# Altium integrated library TI Logic Gate 1.IntLib: 948 symbols (part 7 of 22)
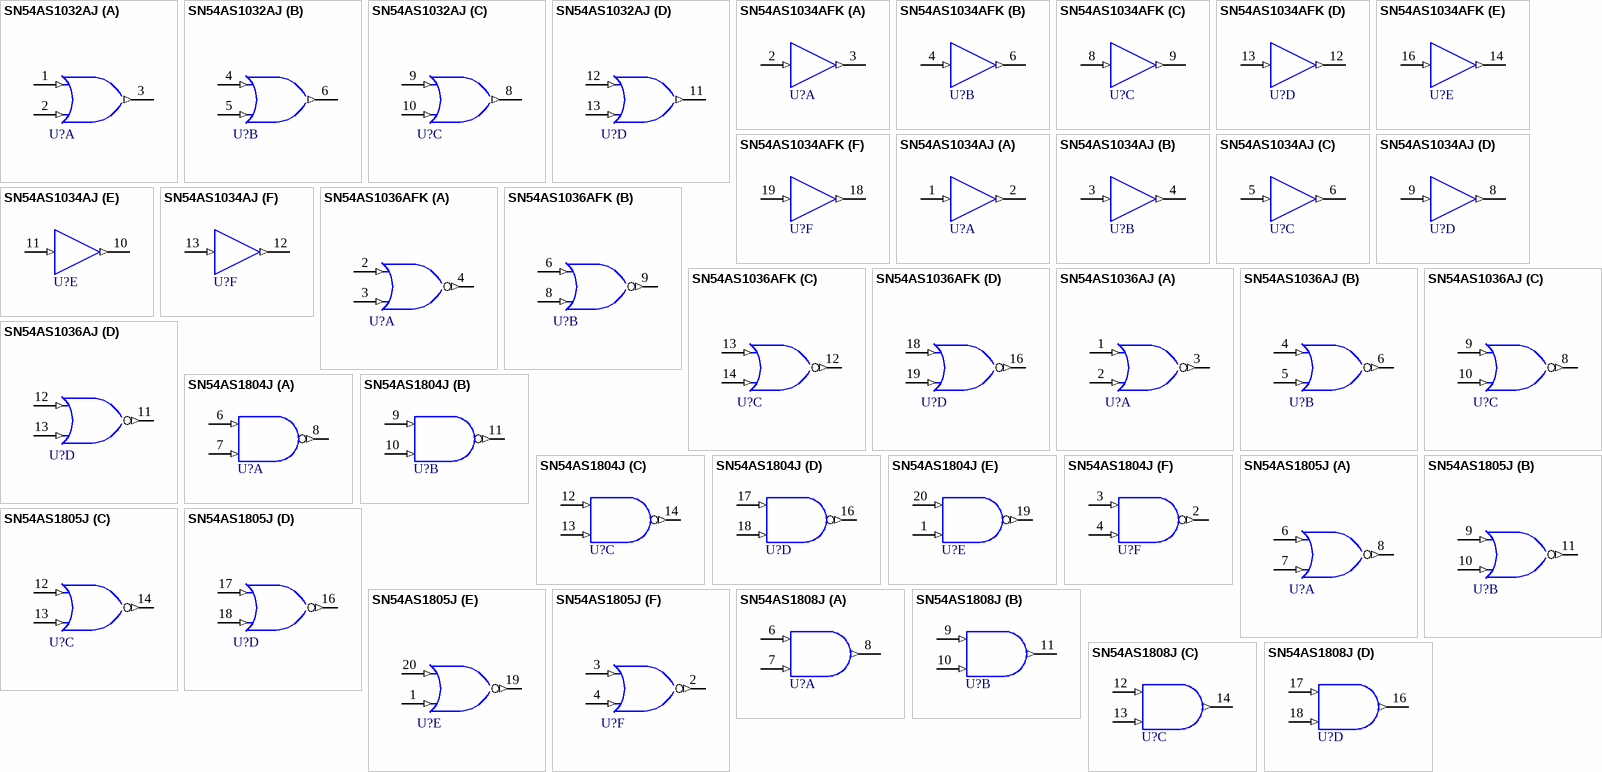
[diagram p96: symbols SN54AS1032AJ to SN54AS1808J]

## SN54AS1036AFK
designator U?
Quadruple 2-Input Positive-NOR Driver; Note: Pins 1, 5, 7, 11, 15 and 17 are not connected and not drawn; Published: 8-Jun-2000; LatestRevisionDate: 17-Jul-2002; LatestRevisionNote: Re-released for DXP Platform.; DatasheetVersion: May-1986; PackageVersion: 1998; PackageReference: FK020; Publisher: Altium Limited; PackageDescription: Leadless Chip Carrier; 20 Terminals; Body 8.9 x 8.9 mm; ComponentLink1Description: Manufacturer Link; ComponentLink1URL: http://www.ti.com/; ComponentLink2Description: Datasheet; ComponentLink2URL: http://www-s.ti.com/sc/ds/sn74as1036a.pdf; ComponentLink3Description: Packaging Specification; ComponentLink3URL: http://www-s.ti.com/sc/psheets/mlcc006b/mlcc006b.pdf
footprint FK020 (Leadless Chip Carrier; 20 Terminals; Body 8.9 x 8.9 mm)
signal-integrity model SN54AS1036AFK
pins on every part: 10 GND (power) hidden to GND, 20 VCC (power) hidden to VCC
part A pins: 2 A (in), 3 B (in), 4 Y (out)
part B pins: 6 A (in), 8 B (in), 9 Y (out)
part C pins: 12 Y (out), 13 A (in), 14 B (in)
part D pins: 16 Y (out), 18 A (in), 19 B (in)

## SN54AS1036AJ
designator U?
Quadruple 2-Input Positive-NOR Driver; Published: 8-Jun-2000; LatestRevisionDate: 04-Mar-2005; LatestRevisionNote: Stylized 3D Model Added.; DatasheetVersion: May-1986; PackageVersion: Jun-1999; PackageReference: J014; Publisher: Altium Limited; PackageDescription: DIP; 14 Leads; Row Spacing 7.62 mm; Pitch 2.54 mm; ComponentLink1Description: Manufacturer Link; ComponentLink1URL: http://www.ti.com/; ComponentLink2Description: Datasheet; ComponentLink2URL: http://www-s.ti.com/sc/ds/sn74as1036a.pdf; ComponentLink3Description: Packaging Specification; ComponentLink3URL: http://focus.ti.com/lit/ml/mcer002d/mcer002d.pdf
footprint J014 (DIP; 14 Leads; Row Spacing 7.62 mm; Pitch 2.54 mm)
3D model J014 (DIP; 14 Leads; Row Spacing 7.62 mm; Pitch 2.54 mm)
signal-integrity model SN54AS1036AJ
pins on every part: 7 GND (power) hidden to GND, 14 VCC (power) hidden to VCC
part A pins: 1 A1 (in), 2 B1 (in), 3 Y1 (out)
part B pins: 4 A2 (in), 5 B2 (in), 6 Y2 (out)
part C pins: 8 Y3 (out), 9 A3 (in), 10 B3 (in)
part D pins: 11 Y4 (out), 12 A4 (in), 13 B4 (in)

## SN54AS1804J
designator U?
Hex 2-Input NAND Driver; Published: 8-Jun-2000; LatestRevisionDate: 04-Mar-2005; LatestRevisionNote: Stylized 3D Model Added.; DatasheetVersion: May-1986; PackageVersion: Jun-1999; PackageReference: J020D; Publisher: Altium Limited; PackageDescription: DIP; 20 Leads; Row Spacing 7.62 mm; Pitch 2.54 mm; ComponentLink1Description: Manufacturer Link; ComponentLink1URL: http://www.ti.com/; ComponentLink2Description: Packaging Specification; ComponentLink2URL: http://focus.ti.com/lit/ml/mcer002d/mcer002d.pdf
footprint J020D (DIP; 20 Leads; Row Spacing 7.62 mm; Pitch 2.54 mm)
3D model J020 (DIP; 20 Leads; Row Spacing 7.62 mm; Pitch 2.54 mm)
signal-integrity model SN54AS1804J
pins on every part: 5 VCC (power) hidden to VCC, 15 GND (power) hidden to GND
part A pins: 6 A1 (in), 7 B1 (in), 8 Y1 (out)
part B pins: 9 A2 (in), 10 B2 (in), 11 Y2 (out)
part C pins: 12 A3 (in), 13 B3 (in), 14 Y3 (out)
part D pins: 16 Y4 (out), 17 A4 (in), 18 B4 (in)
part E pins: 1 B5 (in), 19 Y5 (out), 20 A5 (in)
part F pins: 2 Y6 (out), 3 A6 (in), 4 B6 (in)

## SN54AS1805J
designator U?
Hex 2-Input NOR Driver; Published: 8-Jun-2000; LatestRevisionDate: 04-Mar-2005; LatestRevisionNote: Stylized 3D Model Added.; DatasheetVersion: May-1986; PackageVersion: Jun-1999; PackageReference: J020D; Publisher: Altium Limited; PackageDescription: DIP; 20 Leads; Row Spacing 7.62 mm; Pitch 2.54 mm; ComponentLink1Description: Manufacturer Link; ComponentLink1URL: http://www.ti.com/; ComponentLink2Description: Packaging Specification; ComponentLink2URL: http://focus.ti.com/lit/ml/mcer002d/mcer002d.pdf
footprint J020D (DIP; 20 Leads; Row Spacing 7.62 mm; Pitch 2.54 mm)
3D model J020 (DIP; 20 Leads; Row Spacing 7.62 mm; Pitch 2.54 mm)
signal-integrity model SN54AS1805J
pins on every part: 5 VCC (power) hidden to VCC, 15 GND (power) hidden to GND
part A pins: 6 A1 (in), 7 B1 (in), 8 Y1 (out)
part B pins: 9 A2 (in), 10 B2 (in), 11 Y2 (out)
part C pins: 12 A3 (in), 13 B3 (in), 14 Y3 (out)
part D pins: 16 Y4 (out), 17 A4 (in), 18 B4 (in)
part E pins: 1 B5 (in), 19 Y5 (out), 20 A5 (in)
part F pins: 2 Y6 (out), 3 A6 (in), 4 B6 (in)

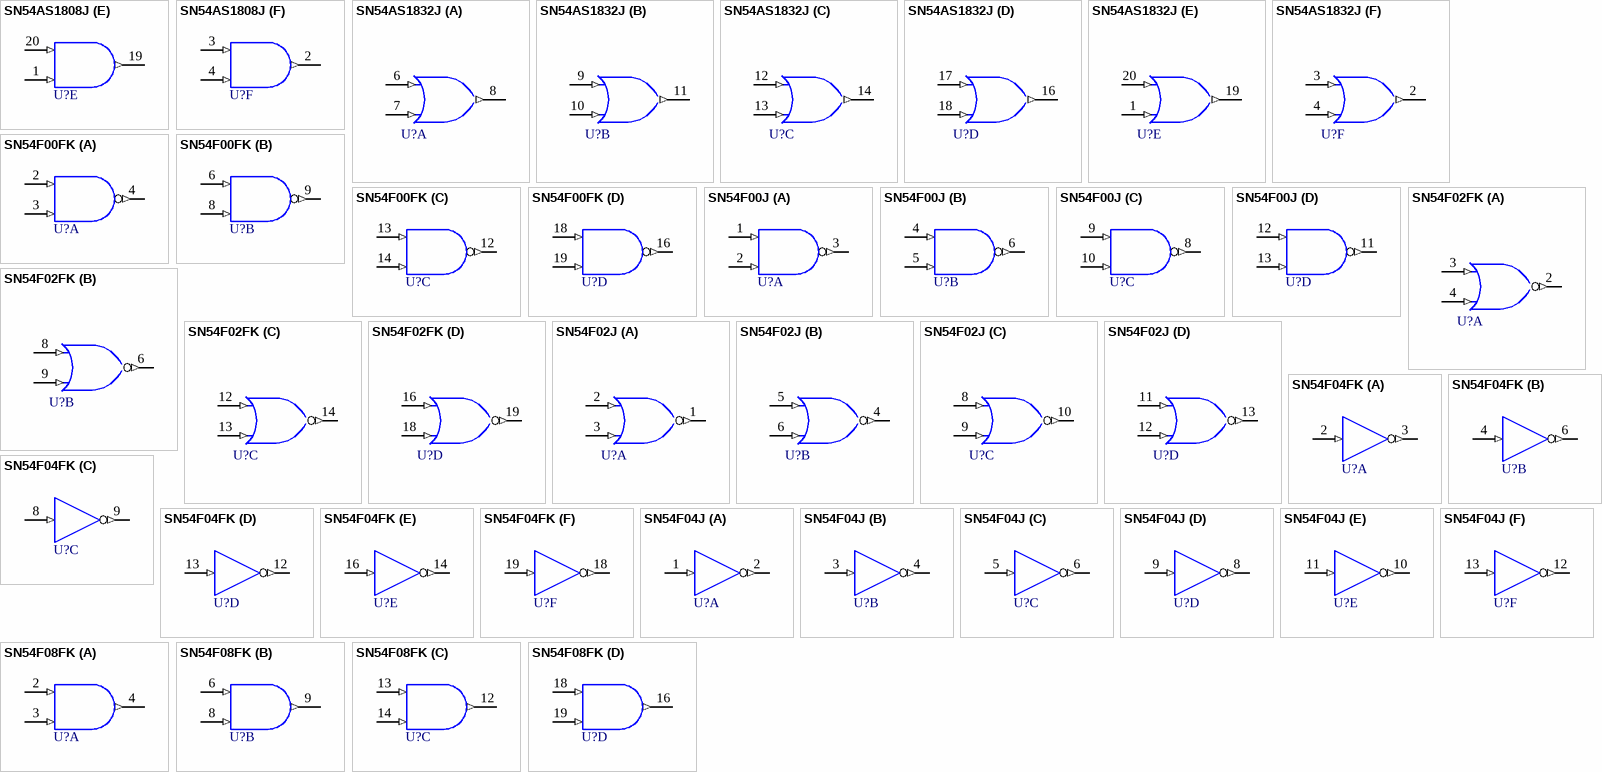
[diagram p26: symbols SN54AS1808J to SN54F08FK]

## SN54AS1808J
designator U?
Hex 2-Input AND Driver; Published: 8-Jun-2000; LatestRevisionDate: 04-Mar-2005; LatestRevisionNote: Stylized 3D Model Added.; DatasheetVersion: May-1986; PackageVersion: Jun-1999; PackageReference: J020D; Publisher: Altium Limited; PackageDescription: DIP; 20 Leads; Row Spacing 7.62 mm; Pitch 2.54 mm; ComponentLink1Description: Manufacturer Link; ComponentLink1URL: http://www.ti.com/; ComponentLink2Description: Packaging Specification; ComponentLink2URL: http://focus.ti.com/lit/ml/mcer002d/mcer002d.pdf
footprint J020D (DIP; 20 Leads; Row Spacing 7.62 mm; Pitch 2.54 mm)
3D model J020 (DIP; 20 Leads; Row Spacing 7.62 mm; Pitch 2.54 mm)
signal-integrity model SN54AS1808J
pins on every part: 5 VCC (power) hidden to VCC, 15 GND (power) hidden to GND
part A pins: 6 A1 (in), 7 B1 (in), 8 Y1 (out)
part B pins: 9 A2 (in), 10 B2 (in), 11 Y2 (out)
part C pins: 12 A3 (in), 13 B3 (in), 14 Y3 (out)
part D pins: 16 Y4 (out), 17 A4 (in), 18 B4 (in)
part E pins: 1 B5 (in), 19 Y5 (out), 20 A5 (in)
part F pins: 2 Y6 (out), 3 A6 (in), 4 B6 (in)

## SN54AS1832J
designator U?
Hex 2-Input OR Driver; Published: 8-Jun-2000; LatestRevisionDate: 04-Mar-2005; LatestRevisionNote: Stylized 3D Model Added.; DatasheetVersion: May-1986; PackageVersion: Jun-1999; PackageReference: J020D; Publisher: Altium Limited; PackageDescription: DIP; 20 Leads; Row Spacing 7.62 mm; Pitch 2.54 mm; ComponentLink1Description: Manufacturer Link; ComponentLink1URL: http://www.ti.com/; ComponentLink2Description: Packaging Specification; ComponentLink2URL: http://focus.ti.com/lit/ml/mcer002d/mcer002d.pdf
footprint J020D (DIP; 20 Leads; Row Spacing 7.62 mm; Pitch 2.54 mm)
3D model J020 (DIP; 20 Leads; Row Spacing 7.62 mm; Pitch 2.54 mm)
signal-integrity model SN54AS1832J
pins on every part: 5 VCC (power) hidden to VCC, 15 GND (power) hidden to GND
part A pins: 6 A1 (in), 7 B1 (in), 8 Y1 (out)
part B pins: 9 A2 (in), 10 B2 (in), 11 Y2 (out)
part C pins: 12 A3 (in), 13 B3 (in), 14 Y3 (out)
part D pins: 16 Y4 (out), 17 A4 (in), 18 B4 (in)
part E pins: 1 B5 (in), 19 Y5 (out), 20 A5 (in)
part F pins: 2 Y6 (out), 3 A6 (in), 4 B6 (in)

## SN54F00FK
designator U?
Quadruple 2-Input Positive-NAND Gate; Note: Pins 1, 5, 7, 11, 15 and 17 are NC & not drawn.; Published: 8-Jun-2000; LatestRevisionDate: 17-Jul-2002; LatestRevisionNote: Re-released for DXP Platform.; DatasheetVersion: Oct-1993; PackageVersion: 1998; PackageReference: FK020; Publisher: Altium Limited; PackageDescription: Leadless Chip Carrier; 20 Terminals; Body 8.9 x 8.9 mm; ComponentLink1Description: Manufacturer Link; ComponentLink1URL: http://www.ti.com/; ComponentLink2Description: Datasheet; ComponentLink2URL: http://www-s.ti.com/sc/ds/sn54f00.pdf; ComponentLink3Description: Packaging Specification; ComponentLink3URL: http://www-s.ti.com/sc/psheets/mlcc006b/mlcc006b.pdf
footprint FK020 (Leadless Chip Carrier; 20 Terminals; Body 8.9 x 8.9 mm)
simulation model SN74F00 (SIMCODE)
signal-integrity model SN54F00FK
pins on every part: 10 GND (power) hidden to GND, 20 VCC (power) hidden to VCC
part A pins: 2 A (in), 3 B (in), 4 Y (out)
part B pins: 6 A (in), 8 B (in), 9 Y (out)
part C pins: 12 Y (out), 13 A (in), 14 B (in)
part D pins: 16 Y (out), 18 A (in), 19 B (in)

## SN54F00J
designator U?
Quadruple 2-Input Positive-NAND Gate; Published: 8-Jun-2000; LatestRevisionDate: 04-Mar-2005; LatestRevisionNote: Stylized 3D Model Added.; DatasheetVersion: Oct-1993; PackageVersion: Jun-1999; PackageReference: J014; Publisher: Altium Limited; PackageDescription: DIP; 14 Leads; Row Spacing 7.62 mm; Pitch 2.54 mm; ComponentLink1Description: Manufacturer Link; ComponentLink1URL: http://www.ti.com/; ComponentLink2Description: Datasheet; ComponentLink2URL: http://www-s.ti.com/sc/ds/sn54f00.pdf; ComponentLink3Description: Packaging Specification; ComponentLink3URL: http://focus.ti.com/lit/ml/mcer002d/mcer002d.pdf
footprint J014 (DIP; 14 Leads; Row Spacing 7.62 mm; Pitch 2.54 mm)
3D model J014 (DIP; 14 Leads; Row Spacing 7.62 mm; Pitch 2.54 mm)
simulation model SN74F00 (SIMCODE)
signal-integrity model SN54F00J
pins on every part: 7 GND (power) hidden to GND, 14 VCC (power) hidden to VCC
part A pins: 1 A (in), 2 B (in), 3 Y (out)
part B pins: 4 A (in), 5 B (in), 6 Y (out)
part C pins: 8 Y (out), 9 A (in), 10 B (in)
part D pins: 11 Y (out), 12 A (in), 13 B (in)

## SN54F02FK
designator U?
Quadruple 2-Input Positive-NOR Gate; Note: Pins 1, 5, 7, 11, 15 and 17 are NC & not drawn..; Published: 8-Jun-2000; LatestRevisionDate: 17-Jul-2002; LatestRevisionNote: Re-released for DXP Platform.; DatasheetVersion: Oct-1993; PackageVersion: 1998; PackageReference: FK020; Publisher: Altium Limited; PackageDescription: Leadless Chip Carrier; 20 Terminals; Body 8.9 x 8.9 mm; ComponentLink1Description: Manufacturer Link; ComponentLink1URL: http://www.ti.com/; ComponentLink2Description: Datasheet; ComponentLink2URL: http://www-s.ti.com/sc/ds/sn54f02.pdf; ComponentLink3Description: Packaging Specification; ComponentLink3URL: http://www-s.ti.com/sc/psheets/mlcc006b/mlcc006b.pdf
footprint FK020 (Leadless Chip Carrier; 20 Terminals; Body 8.9 x 8.9 mm)
simulation model SN74F02 (SIMCODE)
signal-integrity model SN54F02FK
pins on every part: 10 GND (power) hidden to GND, 20 VCC (power) hidden to VCC
part A pins: 2 Y (out), 3 A (in), 4 B (in)
part B pins: 6 Y (out), 8 A (in), 9 B (in)
part C pins: 12 A (in), 13 B (in), 14 Y (out)
part D pins: 16 A (in), 18 B (in), 19 Y (out)

## SN54F02J
designator U?
Quadruple 2-Input Positive-NOR Gate; Published: 8-Jun-2000; LatestRevisionDate: 04-Mar-2005; LatestRevisionNote: Stylized 3D Model Added.; DatasheetVersion: Oct-1993; PackageVersion: Jun-1999; PackageReference: J014; Publisher: Altium Limited; PackageDescription: DIP; 14 Leads; Row Spacing 7.62 mm; Pitch 2.54 mm; ComponentLink1Description: Manufacturer Link; ComponentLink1URL: http://www.ti.com/; ComponentLink2Description: Datasheet; ComponentLink2URL: http://www-s.ti.com/sc/ds/sn54f02.pdf; ComponentLink3Description: Packaging Specification; ComponentLink3URL: http://focus.ti.com/lit/ml/mcer002d/mcer002d.pdf
footprint J014 (DIP; 14 Leads; Row Spacing 7.62 mm; Pitch 2.54 mm)
3D model J014 (DIP; 14 Leads; Row Spacing 7.62 mm; Pitch 2.54 mm)
simulation model SN74F02 (SIMCODE)
signal-integrity model SN54F02J
pins on every part: 7 GND (power) hidden to GND, 14 VCC (power) hidden to VCC
part A pins: 1 Y (out), 2 A (in), 3 B (in)
part B pins: 4 Y (out), 5 A (in), 6 B (in)
part C pins: 8 A (in), 9 B (in), 10 Y (out)
part D pins: 11 A (in), 12 B (in), 13 Y (out)

## SN54F04FK
designator U?
Hex Inverter; Note: Pins 1, 5, 7, 11, 15 and 17 are NC & not drawn.; Published: 8-Jun-2000; LatestRevisionDate: 17-Jul-2002; LatestRevisionNote: Re-released for DXP Platform.; DatasheetVersion: Oct-1993; PackageVersion: 1998; PackageReference: FK020; Publisher: Altium Limited; PackageDescription: Leadless Chip Carrier; 20 Terminals; Body 8.9 x 8.9 mm; ComponentLink1Description: Manufacturer Link; ComponentLink1URL: http://www.ti.com/; ComponentLink2Description: Datasheet; ComponentLink2URL: http://www-s.ti.com/sc/ds/sn54f02.pdf; ComponentLink3Description: Packaging Specification; ComponentLink3URL: http://www-s.ti.com/sc/psheets/mlcc006b/mlcc006b.pdf
footprint FK020 (Leadless Chip Carrier; 20 Terminals; Body 8.9 x 8.9 mm)
simulation model SN74F04 (SIMCODE)
signal-integrity model SN54F04FK
pins on every part: 10 GND (power) hidden to GND, 20 VCC (power) hidden to VCC
part A pins: 2 A (in), 3 Y (out)
part B pins: 4 A (in), 6 Y (out)
part C pins: 8 A (in), 9 Y (out)
part D pins: 12 Y (out), 13 A (in)
part E pins: 14 Y (out), 16 A (in)
part F pins: 18 Y (out), 19 A (in)

## SN54F04J
designator U?
Hex Inverter; Published: 8-Jun-2000; LatestRevisionDate: 04-Mar-2005; LatestRevisionNote: Stylized 3D Model Added.; DatasheetVersion: Oct-1993; PackageVersion: Jun-1999; PackageReference: J014; Publisher: Altium Limited; PackageDescription: DIP; 14 Leads; Row Spacing 7.62 mm; Pitch 2.54 mm; ComponentLink1Description: Manufacturer Link; ComponentLink1URL: http://www.ti.com/; ComponentLink2Description: Datasheet; ComponentLink2URL: http://www-s.ti.com/sc/ds/sn54f02.pdf; ComponentLink3Description: Packaging Specification; ComponentLink3URL: http://focus.ti.com/lit/ml/mcer002d/mcer002d.pdf
footprint J014 (DIP; 14 Leads; Row Spacing 7.62 mm; Pitch 2.54 mm)
3D model J014 (DIP; 14 Leads; Row Spacing 7.62 mm; Pitch 2.54 mm)
simulation model SN74F04 (SIMCODE)
signal-integrity model SN54F04J
pins on every part: 7 GND (power) hidden to GND, 14 VCC (power) hidden to VCC
part A pins: 1 A (in), 2 Y (out)
part B pins: 3 A (in), 4 Y (out)
part C pins: 5 A (in), 6 Y (out)
part D pins: 8 Y (out), 9 A (in)
part E pins: 10 Y (out), 11 A (in)
part F pins: 12 Y (out), 13 A (in)

## SN54F08FK
designator U?
Quadruple 2-Input Positive-AND Gate; Note: Pins 1, 5, 7, 11, 15 and 17 are NC & not drawn..; Published: 8-Jun-2000; LatestRevisionDate: 17-Jul-2002; LatestRevisionNote: Re-released for DXP Platform.; DatasheetVersion: Jan-1989; PackageVersion: 1998; PackageReference: FK020D; Publisher: Altium Limited; PackageDescription: Leadless Chip Carrier; 20 Terminals; Body 8.9 x 8.9 mm; ComponentLink1Description: Manufacturer Link; ComponentLink1URL: http://www.ti.com/; ComponentLink2Description: Packaging Specification; ComponentLink2URL: http://www-s.ti.com/sc/psheets/mlcc006b/mlcc006b.pdf
footprint FK020D (Leadless Chip Carrier; 20 Terminals; Body 8.9 x 8.9 mm)
simulation model SN74F08 (SIMCODE)
signal-integrity model SN54F08FK
pins on every part: 10 GND (power) hidden to GND, 20 VCC (power) hidden to VCC
part A pins: 2 A (in), 3 B (in), 4 Y (out)
part B pins: 6 A (in), 8 B (in), 9 Y (out)
part C pins: 12 Y (out), 13 A (in), 14 B (in)
part D pins: 16 Y (out), 18 A (in), 19 B (in)

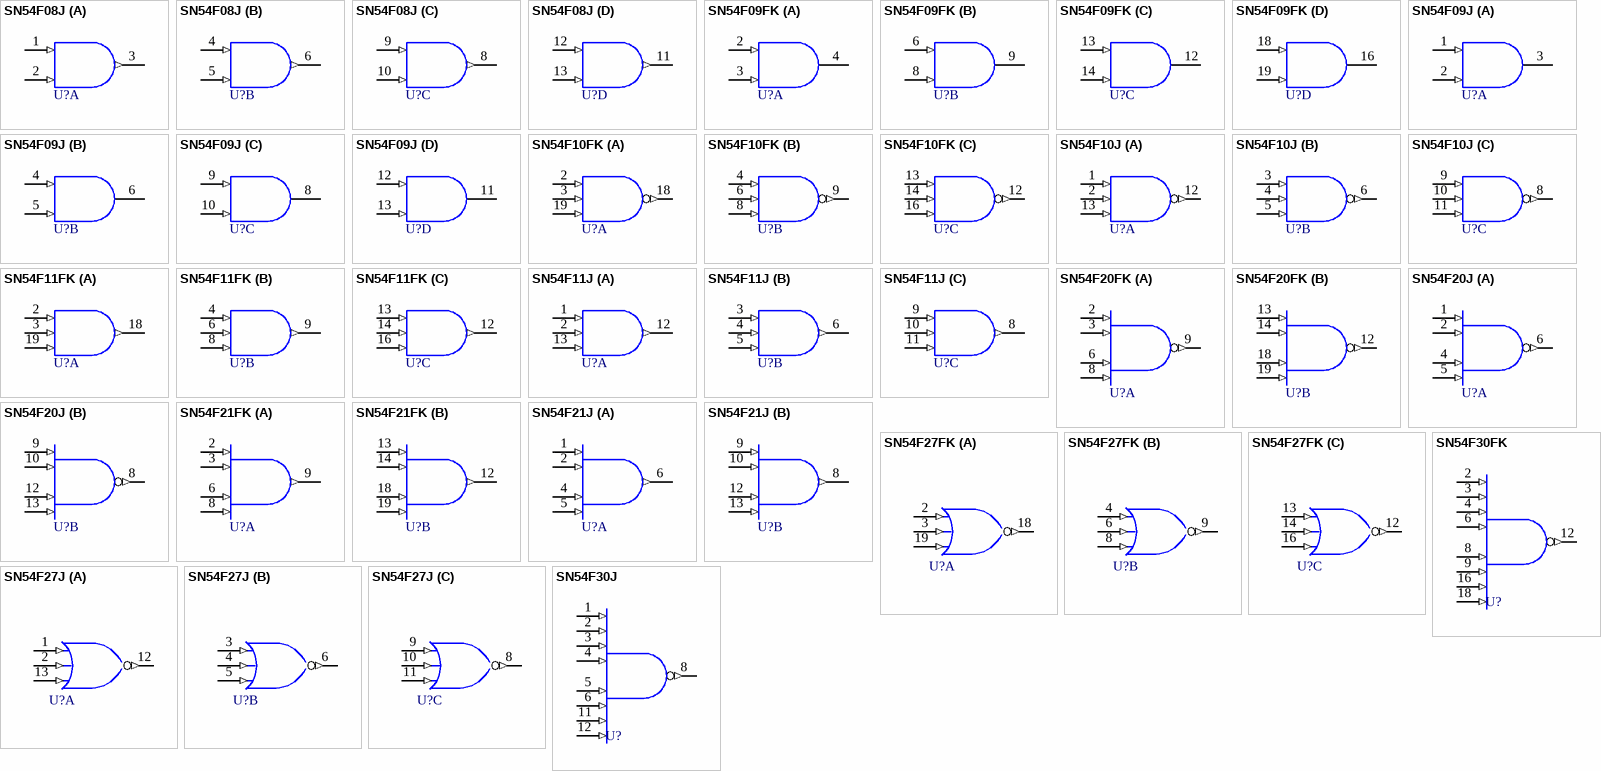
[diagram p27: symbols SN54F08J to SN54F30J]

## SN54F08J
designator U?
Quadruple 2-Input Positive-AND Gate; Published: 8-Jun-2000; LatestRevisionDate: 04-Mar-2005; LatestRevisionNote: Stylized 3D Model Added.; DatasheetVersion: Jan-1989; PackageVersion: Jun-1999; PackageReference: J014D; Publisher: Altium Limited; PackageDescription: DIP; 14 Leads; Row Spacing 7.62 mm; Pitch 2.54 mm; ComponentLink1Description: Manufacturer Link; ComponentLink1URL: http://www.ti.com/; ComponentLink2Description: Packaging Specification; ComponentLink2URL: http://focus.ti.com/lit/ml/mcer002d/mcer002d.pdf
footprint J014D (DIP; 14 Leads; Row Spacing 7.62 mm; Pitch 2.54 mm)
3D model J014 (DIP; 14 Leads; Row Spacing 7.62 mm; Pitch 2.54 mm)
simulation model SN74F08 (SIMCODE)
signal-integrity model SN54F08J
pins on every part: 7 GND (power) hidden to GND, 14 VCC (power) hidden to VCC
part A pins: 1 A (in), 2 B (in), 3 Y (out)
part B pins: 4 A (in), 5 B (in), 6 Y (out)
part C pins: 8 Y (out), 9 A (in), 10 B (in)
part D pins: 11 Y (out), 12 A (in), 13 B (in)

## SN54F09FK
designator U?
Quadruple 2-Input Positive-AND Gate with Open-Collector Outputs; Note: Pins 1, 5, 7, 11, 15 and 17 are not connected and not drawn; Published: 8-Jun-2000; LatestRevisionDate: 17-Jul-2002; LatestRevisionNote: Re-released for DXP Platform.; DatasheetVersion: Jan-1989; PackageVersion: 1998; PackageReference: FK020D; Publisher: Altium Limited; PackageDescription: Leadless Chip Carrier; 20 Terminals; Body 8.9 x 8.9 mm; ComponentLink1Description: Manufacturer Link; ComponentLink1URL: http://www.ti.com/; ComponentLink2Description: Packaging Specification; ComponentLink2URL: http://www-s.ti.com/sc/psheets/mlcc006b/mlcc006b.pdf
footprint FK020D (Leadless Chip Carrier; 20 Terminals; Body 8.9 x 8.9 mm)
signal-integrity model SN54F09FK
pins on every part: 10 GND (power) hidden to GND, 20 VCC (power) hidden to VCC
part A pins: 2 A (in), 3 B (in), 4 Y (oc)
part B pins: 6 A (in), 8 B (in), 9 Y (oc)
part C pins: 12 Y (oc), 13 A (in), 14 B (in)
part D pins: 16 Y (oc), 18 A (in), 19 B (in)

## SN54F09J
designator U?
Quadruple 2-Input Positive-AND Gate with Open-Collector Outputs; Published: 8-Jun-2000; LatestRevisionDate: 04-Mar-2005; LatestRevisionNote: Stylized 3D Model Added.; DatasheetVersion: Jan-1989; PackageVersion: Jun-1999; PackageReference: J014D; Publisher: Altium Limited; PackageDescription: DIP; 14 Leads; Row Spacing 7.62 mm; Pitch 2.54 mm; ComponentLink1Description: Manufacturer Link; ComponentLink1URL: http://www.ti.com/; ComponentLink2Description: Packaging Specification; ComponentLink2URL: http://focus.ti.com/lit/ml/mcer002d/mcer002d.pdf
footprint J014D (DIP; 14 Leads; Row Spacing 7.62 mm; Pitch 2.54 mm)
3D model J014 (DIP; 14 Leads; Row Spacing 7.62 mm; Pitch 2.54 mm)
signal-integrity model SN54F09J
pins on every part: 7 GND (power) hidden to GND, 14 VCC (power) hidden to VCC
part A pins: 1 A (in), 2 B (in), 3 Y (oc)
part B pins: 4 A (in), 5 B (in), 6 Y (oc)
part C pins: 8 Y (oc), 9 A (in), 10 B (in)
part D pins: 11 Y (oc), 12 A (in), 13 B (in)

## SN54F10FK
designator U?
Triple 3-Input Positive-NAND Gate; Note: Pins 1, 5, 7, 11, 15 and 17 are NC & not drawn.; Published: 8-Jun-2000; LatestRevisionDate: 17-Jul-2002; LatestRevisionNote: Re-released for DXP Platform.; DatasheetVersion: Oct-1993; PackageVersion: 1998; PackageReference: FK020; Publisher: Altium Limited; PackageDescription: Leadless Chip Carrier; 20 Terminals; Body 8.9 x 8.9 mm; ComponentLink1Description: Manufacturer Link; ComponentLink1URL: http://www.ti.com/; ComponentLink2Description: Datasheet; ComponentLink2URL: http://www-s.ti.com/sc/ds/sn54f10.pdf; ComponentLink3Description: Packaging Specification; ComponentLink3URL: http://www-s.ti.com/sc/psheets/mlcc006b/mlcc006b.pdf
footprint FK020 (Leadless Chip Carrier; 20 Terminals; Body 8.9 x 8.9 mm)
simulation model SN74F10 (SIMCODE)
signal-integrity model SN54F10FK
pins on every part: 10 GND (power) hidden to GND, 20 VCC (power) hidden to VCC
part A pins: 2 A (in), 3 B (in), 18 Y (out), 19 C (in)
part B pins: 4 A (in), 6 B (in), 8 C (in), 9 Y (out)
part C pins: 12 Y (out), 13 A (in), 14 B (in), 16 C (in)

## SN54F10J
designator U?
Triple 3-Input Positive-NAND Gate; Published: 8-Jun-2000; LatestRevisionDate: 04-Mar-2005; LatestRevisionNote: Stylized 3D Model Added.; DatasheetVersion: Oct-1993; PackageVersion: Jun-1999; PackageReference: J014; Publisher: Altium Limited; PackageDescription: DIP; 14 Leads; Row Spacing 7.62 mm; Pitch 2.54 mm; ComponentLink1Description: Manufacturer Link; ComponentLink1URL: http://www.ti.com/; ComponentLink2Description: Datasheet; ComponentLink2URL: http://www-s.ti.com/sc/ds/sn54f10.pdf; ComponentLink3Description: Packaging Specification; ComponentLink3URL: http://focus.ti.com/lit/ml/mcer002d/mcer002d.pdf
footprint J014 (DIP; 14 Leads; Row Spacing 7.62 mm; Pitch 2.54 mm)
3D model J014 (DIP; 14 Leads; Row Spacing 7.62 mm; Pitch 2.54 mm)
simulation model SN74F10 (SIMCODE)
signal-integrity model SN54F10J
pins on every part: 7 GND (power) hidden to GND, 14 VCC (power) hidden to VCC
part A pins: 1 A (in), 2 B (in), 12 Y (out), 13 C (in)
part B pins: 3 A (in), 4 B (in), 5 C (in), 6 Y (out)
part C pins: 8 Y (out), 9 A (in), 10 B (in), 11 C (in)

## SN54F11FK
designator U?
Triple 3-Input Positive-AND Gate; Note: Pins 1, 5, 7, 11, 15 and 17 are NC & not drawn.; Published: 8-Jun-2000; LatestRevisionDate: 17-Jul-2002; LatestRevisionNote: Re-released for DXP Platform.; DatasheetVersion: Oct-1993; PackageVersion: 1998; PackageReference: FK020; Publisher: Altium Limited; PackageDescription: Leadless Chip Carrier; 20 Terminals; Body 8.9 x 8.9 mm; ComponentLink1Description: Manufacturer Link; ComponentLink1URL: http://www.ti.com/; ComponentLink2Description: Datasheet; ComponentLink2URL: http://www-s.ti.com/sc/ds/sn54f11.pdf; ComponentLink3Description: Packaging Specification; ComponentLink3URL: http://www-s.ti.com/sc/psheets/mlcc006b/mlcc006b.pdf
footprint FK020 (Leadless Chip Carrier; 20 Terminals; Body 8.9 x 8.9 mm)
simulation model SN74F11 (SIMCODE)
signal-integrity model SN54F11FK
pins on every part: 10 GND (power) hidden to GND, 20 VCC (power) hidden to VCC
part A pins: 2 A (in), 3 B (in), 18 Y (out), 19 C (in)
part B pins: 4 A (in), 6 B (in), 8 C (in), 9 Y (out)
part C pins: 12 Y (out), 13 A (in), 14 B (in), 16 C (in)

## SN54F11J
designator U?
Triple 3-Input Positive-AND Gate; Published: 8-Jun-2000; LatestRevisionDate: 04-Mar-2005; LatestRevisionNote: Stylized 3D Model Added.; DatasheetVersion: Oct-1993; PackageVersion: Jun-1999; PackageReference: J014; Publisher: Altium Limited; PackageDescription: DIP; 14 Leads; Row Spacing 7.62 mm; Pitch 2.54 mm; ComponentLink1Description: Manufacturer Link; ComponentLink1URL: http://www.ti.com/; ComponentLink2Description: Datasheet; ComponentLink2URL: http://www-s.ti.com/sc/ds/sn54f11.pdf; ComponentLink3Description: Packaging Specification; ComponentLink3URL: http://focus.ti.com/lit/ml/mcer002d/mcer002d.pdf
footprint J014 (DIP; 14 Leads; Row Spacing 7.62 mm; Pitch 2.54 mm)
3D model J014 (DIP; 14 Leads; Row Spacing 7.62 mm; Pitch 2.54 mm)
simulation model SN74F11 (SIMCODE)
signal-integrity model SN54F11J
pins on every part: 7 GND (power) hidden to GND, 14 VCC (power) hidden to VCC
part A pins: 1 A (in), 2 B (in), 12 Y (out), 13 C (in)
part B pins: 3 A (in), 4 B (in), 5 C (in), 6 Y (out)
part C pins: 8 Y (out), 9 A (in), 10 B (in), 11 C (in)

## SN54F20FK
designator U?
Dual 4-Input Positive-NAND Gate; Note: Pins 1, 4, 5, 7, 11, 15, 16 and 17 are NC & not drawn.; Published: 8-Jun-2000; LatestRevisionDate: 17-Jul-2002; LatestRevisionNote: Re-released for DXP Platform.; DatasheetVersion: Oct-1993; PackageVersion: 1998; PackageReference: FK020; Publisher: Altium Limited; PackageDescription: Leadless Chip Carrier; 20 Terminals; Body 8.9 x 8.9 mm; ComponentLink1Description: Manufacturer Link; ComponentLink1URL: http://www.ti.com/; ComponentLink2Description: Datasheet; ComponentLink2URL: http://www-s.ti.com/sc/ds/sn54f20.pdf; ComponentLink3Description: Packaging Specification; ComponentLink3URL: http://www-s.ti.com/sc/psheets/mlcc006b/mlcc006b.pdf
footprint FK020 (Leadless Chip Carrier; 20 Terminals; Body 8.9 x 8.9 mm)
simulation model SN74F20 (SIMCODE)
signal-integrity model SN54F20FK
pins on every part: 10 GND (power) hidden to GND, 20 VCC (power) hidden to VCC
part A pins: 2 A (in), 3 B (in), 6 C (in), 8 D (in), 9 Y (out)
part B pins: 12 Y (out), 13 A (in), 14 B (in), 18 C (in), 19 D (in)

## SN54F20J
designator U?
Dual 4-Input Positive-NAND Gate; Note: Pins 3 and 11 are NC & not drawn.; Published: 8-Jun-2000; LatestRevisionDate: 04-Mar-2005; LatestRevisionNote: Stylized 3D Model Added.; DatasheetVersion: Oct-1993; PackageVersion: Jun-1999; PackageReference: J014; Publisher: Altium Limited; PackageDescription: DIP; 14 Leads; Row Spacing 7.62 mm; Pitch 2.54 mm; ComponentLink1Description: Manufacturer Link; ComponentLink1URL: http://www.ti.com/; ComponentLink2Description: Datasheet; ComponentLink2URL: http://www-s.ti.com/sc/ds/sn54f20.pdf; ComponentLink3Description: Packaging Specification; ComponentLink3URL: http://focus.ti.com/lit/ml/mcer002d/mcer002d.pdf
footprint J014 (DIP; 14 Leads; Row Spacing 7.62 mm; Pitch 2.54 mm)
3D model J014 (DIP; 14 Leads; Row Spacing 7.62 mm; Pitch 2.54 mm)
simulation model SN74F20 (SIMCODE)
signal-integrity model SN54F20J
pins on every part: 7 GND (power) hidden to GND, 14 VCC (power) hidden to VCC
part A pins: 1 A (in), 2 B (in), 4 C (in), 5 D (in), 6 Y (out)
part B pins: 8 Y (out), 9 A (in), 10 B (in), 12 C (in), 13 D (in)

## SN54F21FK
designator U?
Dual 4-Input Positive-AND Gate; Note: Pins 1, 4, 5, 7, 11, 15, 16 and 17 are not connected and not drawn; Published: 8-Jun-2000; LatestRevisionDate: 17-Jul-2002; LatestRevisionNote: Re-released for DXP Platform.; DatasheetVersion: Oct-1993; PackageVersion: 1998; PackageReference: FK020; Publisher: Altium Limited; PackageDescription: Leadless Chip Carrier; 20 Terminals; Body 8.9 x 8.9 mm; ComponentLink1Description: Manufacturer Link; ComponentLink1URL: http://www.ti.com/; ComponentLink2Description: Packaging Specification; ComponentLink2URL: http://www-s.ti.com/sc/psheets/mlcc006b/mlcc006b.pdf
footprint FK020 (Leadless Chip Carrier; 20 Terminals; Body 8.9 x 8.9 mm)
signal-integrity model SN54F21FK
pins on every part: 10 GND (power) hidden to GND, 20 VCC (power) hidden to VCC
part A pins: 2 A (in), 3 B (in), 6 C (in), 8 D (in), 9 Y (out)
part B pins: 12 Y (out), 13 A (in), 14 B (in), 18 C (in), 19 D (in)

## SN54F21J
designator U?
Dual 4-Input Positive-AND Gate; Note: Pins 3 and 11 are not connected and not drawn; Published: 8-Jun-2000; LatestRevisionDate: 04-Mar-2005; LatestRevisionNote: Stylized 3D Model Added.; DatasheetVersion: Oct-1993; PackageVersion: Jun-1999; PackageReference: J014; Publisher: Altium Limited; PackageDescription: DIP; 14 Leads; Row Spacing 7.62 mm; Pitch 2.54 mm; ComponentLink1Description: Manufacturer Link; ComponentLink1URL: http://www.ti.com/; ComponentLink2Description: Packaging Specification; ComponentLink2URL: http://focus.ti.com/lit/ml/mcer002d/mcer002d.pdf
footprint J014 (DIP; 14 Leads; Row Spacing 7.62 mm; Pitch 2.54 mm)
3D model J014 (DIP; 14 Leads; Row Spacing 7.62 mm; Pitch 2.54 mm)
signal-integrity model SN54F21J
pins on every part: 7 GND (power) hidden to GND, 14 VCC (power) hidden to VCC
part A pins: 1 A (in), 2 B (in), 4 C (in), 5 D (in), 6 Y (out)
part B pins: 8 Y (out), 9 A (in), 10 B (in), 12 C (in), 13 D (in)

## SN54F27FK
designator U?
Triple 3-Input Positive-NOR Gate; Note: Pins 1, 5, 7, 11, 15 and 17 are NC & not drawn.; Published: 8-Jun-2000; LatestRevisionDate: 17-Jul-2002; LatestRevisionNote: Re-released for DXP Platform.; DatasheetVersion: Oct-1993; PackageVersion: 1998; PackageReference: FK020; Publisher: Altium Limited; PackageDescription: Leadless Chip Carrier; 20 Terminals; Body 8.9 x 8.9 mm; ComponentLink1Description: Manufacturer Link; ComponentLink1URL: http://www.ti.com/; ComponentLink2Description: Datasheet; ComponentLink2URL: http://www-s.ti.com/sc/ds/sn54f27.pdf; ComponentLink3Description: Packaging Specification; ComponentLink3URL: http://www-s.ti.com/sc/psheets/mlcc006b/mlcc006b.pdf
footprint FK020 (Leadless Chip Carrier; 20 Terminals; Body 8.9 x 8.9 mm)
simulation model SN74F27 (SIMCODE)
signal-integrity model SN54F27FK
pins on every part: 10 GND (power) hidden to GND, 20 VCC (power) hidden to VCC
part A pins: 2 A (in), 3 B (in), 18 Y (out), 19 C (in)
part B pins: 4 A (in), 6 B (in), 8 C (in), 9 Y (out)
part C pins: 12 Y (out), 13 A (in), 14 B (in), 16 C (in)

## SN54F27J
designator U?
Triple 3-Input Positive-NOR Gate; Published: 8-Jun-2000; LatestRevisionDate: 04-Mar-2005; LatestRevisionNote: Stylized 3D Model Added.; DatasheetVersion: Oct-1993; PackageVersion: Jun-1999; PackageReference: J014; Publisher: Altium Limited; PackageDescription: DIP; 14 Leads; Row Spacing 7.62 mm; Pitch 2.54 mm; ComponentLink1Description: Manufacturer Link; ComponentLink1URL: http://www.ti.com/; ComponentLink2Description: Datasheet; ComponentLink2URL: http://www-s.ti.com/sc/ds/sn54f27.pdf; ComponentLink3Description: Packaging Specification; ComponentLink3URL: http://focus.ti.com/lit/ml/mcer002d/mcer002d.pdf
footprint J014 (DIP; 14 Leads; Row Spacing 7.62 mm; Pitch 2.54 mm)
3D model J014 (DIP; 14 Leads; Row Spacing 7.62 mm; Pitch 2.54 mm)
simulation model SN74F27 (SIMCODE)
signal-integrity model SN54F27J
pins on every part: 7 GND (power) hidden to GND, 14 VCC (power) hidden to VCC
part A pins: 1 A (in), 2 B (in), 12 Y (out), 13 C (in)
part B pins: 3 A (in), 4 B (in), 5 C (in), 6 Y (out)
part C pins: 8 Y (out), 9 A (in), 10 B (in), 11 C (in)

## SN54F30FK
designator U?
8-Input Positive-NAND Gate; Note: Pins 1, 5, 7, 11, 13, 14, 15, 17 and 19 are NC & not drawn.; Published: 8-Jun-2000; LatestRevisionDate: 17-Jul-2002; LatestRevisionNote: Re-released for DXP Platform.; DatasheetVersion: Oct-1993; PackageVersion: 1998; PackageReference: FK020; Publisher: Altium Limited; PackageDescription: Leadless Chip Carrier; 20 Terminals; Body 8.9 x 8.9 mm; ComponentLink1Description: Manufacturer Link; ComponentLink1URL: http://www.ti.com/; ComponentLink2Description: Datasheet; ComponentLink2URL: http://www-s.ti.com/sc/ds/sn54f30.pdf; ComponentLink3Description: Packaging Specification; ComponentLink3URL: http://www-s.ti.com/sc/psheets/mlcc006b/mlcc006b.pdf
footprint FK020 (Leadless Chip Carrier; 20 Terminals; Body 8.9 x 8.9 mm)
simulation model SN74F30 (SIMCODE)
signal-integrity model SN54F30FK
pins: 2 A (in), 3 B (in), 4 C (in), 6 D (in), 8 E (in), 9 F (in), 10 GND (power) hidden to GND, 12 Y (out), 16 G (in), 18 H (in), 20 VCC (power) hidden to VCC

## SN54F30J
designator U?
8-Input Positive-NAND Gate; Note: Pins 9, 10  and 13 are NC & not drawn.; Published: 8-Jun-2000; LatestRevisionDate: 04-Mar-2005; LatestRevisionNote: Stylized 3D Model Added.; DatasheetVersion: Oct-1993; PackageVersion: Jun-1999; PackageReference: J014; Publisher: Altium Limited; PackageDescription: DIP; 14 Leads; Row Spacing 7.62 mm; Pitch 2.54 mm; ComponentLink1Description: Manufacturer Link; ComponentLink1URL: http://www.ti.com/; ComponentLink2Description: Datasheet; ComponentLink2URL: http://www-s.ti.com/sc/ds/sn54f30.pdf; ComponentLink3Description: Packaging Specification; ComponentLink3URL: http://focus.ti.com/lit/ml/mcer002d/mcer002d.pdf
footprint J014 (DIP; 14 Leads; Row Spacing 7.62 mm; Pitch 2.54 mm)
3D model J014 (DIP; 14 Leads; Row Spacing 7.62 mm; Pitch 2.54 mm)
simulation model SN74F30 (SIMCODE)
signal-integrity model SN54F30J
pins: 1 A (in), 2 B (in), 3 C (in), 4 D (in), 5 E (in), 6 F (in), 7 GND (power) hidden to GND, 8 Y (out), 11 G (in), 12 H (in), 14 VCC (power) hidden to VCC

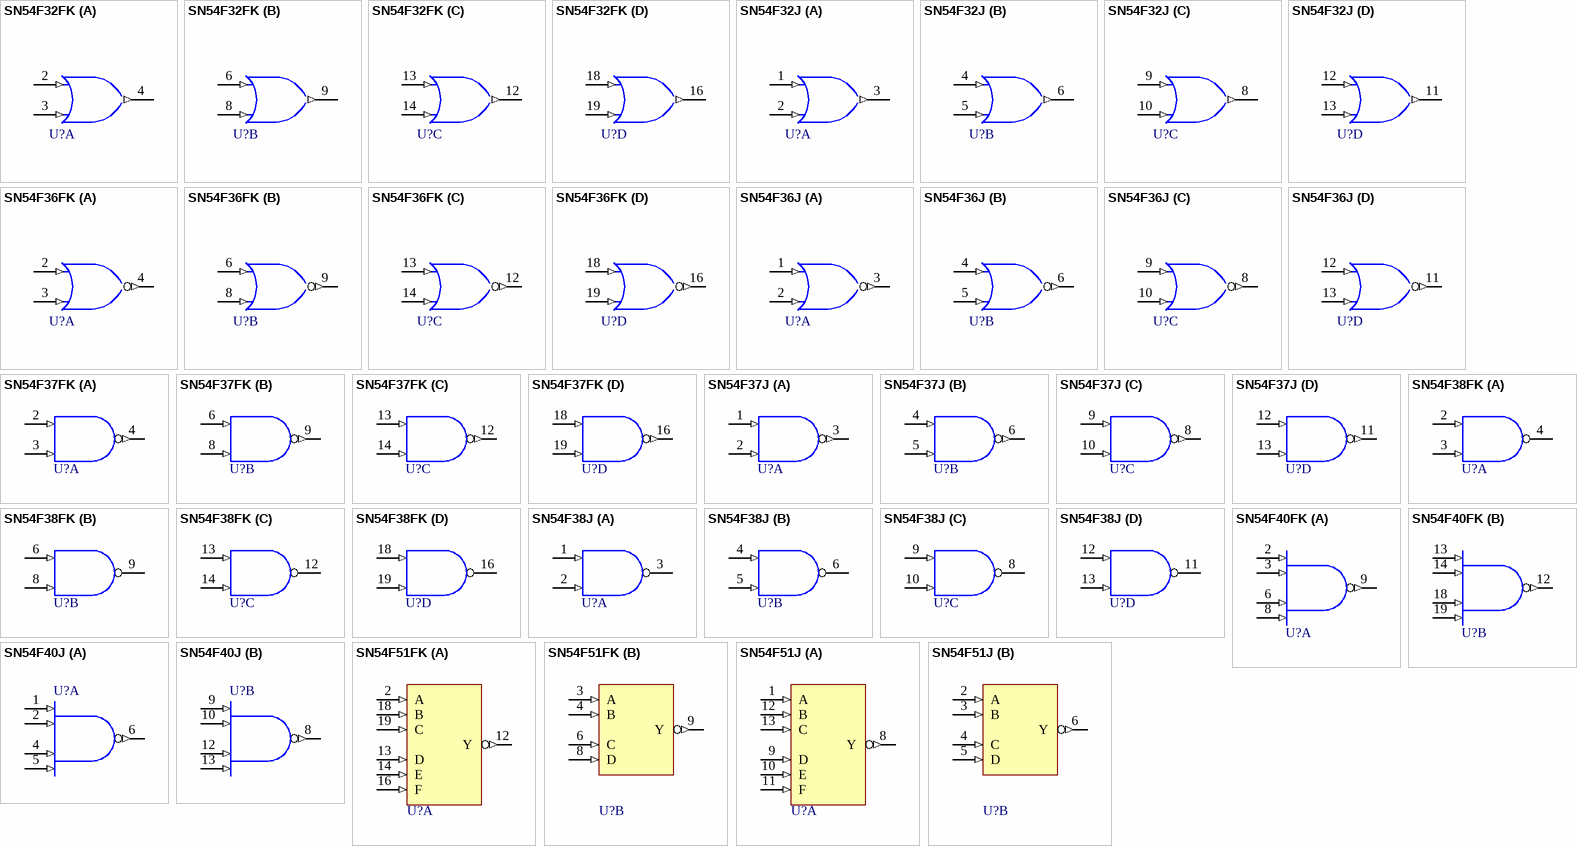
[diagram p28: symbols SN54F32FK to SN54F51J]

## SN54F32FK
designator U?
Quadruple 2-Input Positive-OR Gate; Note: Pins 1, 5, 7, 11, 15 and 17 are NC & not drawn.; Published: 8-Jun-2000; LatestRevisionDate: 17-Jul-2002; LatestRevisionNote: Re-released for DXP Platform.; DatasheetVersion: May-1999; PackageVersion: 1998; PackageReference: FK020; Publisher: Altium Limited; PackageDescription: Leadless Chip Carrier; 20 Terminals; Body 8.9 x 8.9 mm; ComponentLink1Description: Manufacturer Link; ComponentLink1URL: http://www.ti.com/; ComponentLink2Description: Datasheet; ComponentLink2URL: http://www-s.ti.com/sc/ds/sn54f32.pdf; ComponentLink3Description: Packaging Specification; ComponentLink3URL: http://www-s.ti.com/sc/psheets/mlcc006b/mlcc006b.pdf
footprint FK020 (Leadless Chip Carrier; 20 Terminals; Body 8.9 x 8.9 mm)
simulation model SN74F32 (SIMCODE)
signal-integrity model SN54F32FK
pins on every part: 10 GND (power) hidden to GND, 20 VCC (power) hidden to VCC
part A pins: 2 A (in), 3 B (in), 4 Y (out)
part B pins: 6 A (in), 8 B (in), 9 Y (out)
part C pins: 12 Y (out), 13 A (in), 14 B (in)
part D pins: 16 Y (out), 18 A (in), 19 B (in)

## SN54F32J
designator U?
Quadruple 2-Input Positive-OR Gate; Published: 8-Jun-2000; LatestRevisionDate: 04-Mar-2005; LatestRevisionNote: Stylized 3D Model Added.; DatasheetVersion: May-1999; PackageVersion: Jun-1999; PackageReference: J014; Publisher: Altium Limited; PackageDescription: DIP; 14 Leads; Row Spacing 7.62 mm; Pitch 2.54 mm; ComponentLink1Description: Manufacturer Link; ComponentLink1URL: http://www.ti.com/; ComponentLink2Description: Datasheet; ComponentLink2URL: http://www-s.ti.com/sc/ds/sn54f32.pdf; ComponentLink3Description: Packaging Specification; ComponentLink3URL: http://focus.ti.com/lit/ml/mcer002d/mcer002d.pdf
footprint J014 (DIP; 14 Leads; Row Spacing 7.62 mm; Pitch 2.54 mm)
3D model J014 (DIP; 14 Leads; Row Spacing 7.62 mm; Pitch 2.54 mm)
simulation model SN74F32 (SIMCODE)
signal-integrity model SN54F32J
pins on every part: 7 GND (power) hidden to GND, 14 VCC (power) hidden to VCC
part A pins: 1 A (in), 2 B (in), 3 Y (out)
part B pins: 4 A (in), 5 B (in), 6 Y (out)
part C pins: 8 Y (out), 9 A (in), 10 B (in)
part D pins: 11 Y (out), 12 A (in), 13 B (in)

## SN54F36FK
designator U?
Quadruple 2-Input Positive-NOR Gate; Note: Pins 1, 5, 7, 11, 15 and 17 are not connected and not drawn; Published: 8-Jun-2000; LatestRevisionDate: 17-Jul-2002; LatestRevisionNote: Re-released for DXP Platform.; DatasheetVersion: Jan-1989; PackageVersion: 1998; PackageReference: FK020D; Publisher: Altium Limited; PackageDescription: Leadless Chip Carrier; 20 Terminals; Body 8.9 x 8.9 mm; ComponentLink1Description: Manufacturer Link; ComponentLink1URL: http://www.ti.com/; ComponentLink2Description: Packaging Specification; ComponentLink2URL: http://www-s.ti.com/sc/psheets/mlcc006b/mlcc006b.pdf
footprint FK020D (Leadless Chip Carrier; 20 Terminals; Body 8.9 x 8.9 mm)
signal-integrity model SN54F36FK
pins on every part: 10 GND (power) hidden to GND, 20 VCC (power) hidden to VCC
part A pins: 2 A (in), 3 B (in), 4 Y (out)
part B pins: 6 A (in), 8 B (in), 9 Y (out)
part C pins: 12 Y (out), 13 A (in), 14 B (in)
part D pins: 16 Y (out), 18 A (in), 19 B (in)

## SN54F36J
designator U?
Quadruple 2-Input Positive-NOR Gate; Published: 8-Jun-2000; LatestRevisionDate: 04-Mar-2005; LatestRevisionNote: Stylized 3D Model Added.; DatasheetVersion: Jan-1989; PackageVersion: Jun-1999; PackageReference: J014D; Publisher: Altium Limited; PackageDescription: DIP; 14 Leads; Row Spacing 7.62 mm; Pitch 2.54 mm; ComponentLink1Description: Manufacturer Link; ComponentLink1URL: http://www.ti.com/; ComponentLink2Description: Packaging Specification; ComponentLink2URL: http://focus.ti.com/lit/ml/mcer002d/mcer002d.pdf
footprint J014D (DIP; 14 Leads; Row Spacing 7.62 mm; Pitch 2.54 mm)
3D model J014 (DIP; 14 Leads; Row Spacing 7.62 mm; Pitch 2.54 mm)
signal-integrity model SN54F36J
pins on every part: 7 GND (power) hidden to GND, 14 VCC (power) hidden to VCC
part A pins: 1 A (in), 2 B (in), 3 Y (out)
part B pins: 4 A (in), 5 B (in), 6 Y (out)
part C pins: 8 Y (out), 9 A (in), 10 B (in)
part D pins: 11 Y (out), 12 A (in), 13 B (in)

## SN54F37FK
designator U?
Quadruple 2-Input Positive-NAND Buffer; Note: Pins 1, 5, 7, 11, 15 and 17 are NC & not drawn.; Published: 8-Jun-2000; LatestRevisionDate: 17-Jul-2002; LatestRevisionNote: Re-released for DXP Platform.; DatasheetVersion: Apr-1989; PackageVersion: 1998; PackageReference: FK020; Publisher: Altium Limited; PackageDescription: Leadless Chip Carrier; 20 Terminals; Body 8.9 x 8.9 mm; ComponentLink1Description: Manufacturer Link; ComponentLink1URL: http://www.ti.com/; ComponentLink2Description: Packaging Specification; ComponentLink2URL: http://www-s.ti.com/sc/psheets/mlcc006b/mlcc006b.pdf
footprint FK020 (Leadless Chip Carrier; 20 Terminals; Body 8.9 x 8.9 mm)
simulation model SN74F37 (SIMCODE)
signal-integrity model SN54F37FK
pins on every part: 10 GND (power) hidden to GND, 20 VCC (power) hidden to VCC
part A pins: 2 A (in), 3 B (in), 4 Y (out)
part B pins: 6 A (in), 8 B (in), 9 Y (out)
part C pins: 12 Y (out), 13 A (in), 14 B (in)
part D pins: 16 Y (out), 18 A (in), 19 B (in)

## SN54F37J
designator U?
Quadruple 2-Input Positive-NAND Buffer; Published: 8-Jun-2000; LatestRevisionDate: 04-Mar-2005; LatestRevisionNote: Stylized 3D Model Added.; DatasheetVersion: Apr-1989; PackageVersion: Jun-1999; PackageReference: J014; Publisher: Altium Limited; PackageDescription: DIP; 14 Leads; Row Spacing 7.62 mm; Pitch 2.54 mm; ComponentLink1Description: Manufacturer Link; ComponentLink1URL: http://www.ti.com/; ComponentLink2Description: Packaging Specification; ComponentLink2URL: http://focus.ti.com/lit/ml/mcer002d/mcer002d.pdf
footprint J014 (DIP; 14 Leads; Row Spacing 7.62 mm; Pitch 2.54 mm)
3D model J014 (DIP; 14 Leads; Row Spacing 7.62 mm; Pitch 2.54 mm)
simulation model SN74F37 (SIMCODE)
signal-integrity model SN54F37J
pins on every part: 7 GND (power) hidden to GND, 14 VCC (power) hidden to VCC
part A pins: 1 A (in), 2 B (in), 3 Y (out)
part B pins: 4 A (in), 5 B (in), 6 Y (out)
part C pins: 8 Y (out), 9 A (in), 10 B (in)
part D pins: 11 Y (out), 12 A (in), 13 B (in)

## SN54F38FK
designator U?
Quadruple 2-Input Positive-NAND Buffer with Open-Collector Outputs; Note: Pins 1, 5, 7, 11, 15 and 17 are not connected and not drawn; Published: 8-Jun-2000; LatestRevisionDate: 17-Jul-2002; LatestRevisionNote: Re-released for DXP Platform.; DatasheetVersion: Oct-1993; PackageVersion: 1998; PackageReference: FK020; Publisher: Altium Limited; PackageDescription: Leadless Chip Carrier; 20 Terminals; Body 8.9 x 8.9 mm; ComponentLink1Description: Manufacturer Link; ComponentLink1URL: http://www.ti.com/; ComponentLink2Description: Packaging Specification; ComponentLink2URL: http://www-s.ti.com/sc/psheets/mlcc006b/mlcc006b.pdf
footprint FK020 (Leadless Chip Carrier; 20 Terminals; Body 8.9 x 8.9 mm)
signal-integrity model SN54F38FK
pins on every part: 10 GND (power) hidden to GND, 20 VCC (power) hidden to VCC
part A pins: 2 A (in), 3 B (in), 4 Y (oc)
part B pins: 6 A (in), 8 B (in), 9 Y (oc)
part C pins: 12 Y (oc), 13 A (in), 14 B (in)
part D pins: 16 Y (oc), 18 A (in), 19 B (in)

## SN54F38J
designator U?
Quadruple 2-Input Positive-NAND Buffer with Open-Collector Outputs; Published: 8-Jun-2000; LatestRevisionDate: 04-Mar-2005; LatestRevisionNote: Stylized 3D Model Added.; DatasheetVersion: Oct-1993; PackageVersion: Jun-1999; PackageReference: J014; Publisher: Altium Limited; PackageDescription: DIP; 14 Leads; Row Spacing 7.62 mm; Pitch 2.54 mm; ComponentLink1Description: Manufacturer Link; ComponentLink1URL: http://www.ti.com/; ComponentLink2Description: Packaging Specification; ComponentLink2URL: http://focus.ti.com/lit/ml/mcer002d/mcer002d.pdf
footprint J014 (DIP; 14 Leads; Row Spacing 7.62 mm; Pitch 2.54 mm)
3D model J014 (DIP; 14 Leads; Row Spacing 7.62 mm; Pitch 2.54 mm)
signal-integrity model SN54F38J
pins on every part: 7 GND (power) hidden to GND, 14 VCC (power) hidden to VCC
part A pins: 1 A (in), 2 B (in), 3 Y (oc)
part B pins: 4 A (in), 5 B (in), 6 Y (oc)
part C pins: 8 Y (oc), 9 A (in), 10 B (in)
part D pins: 11 Y (oc), 12 A (in), 13 B (in)

## SN54F40FK
designator U?
Dual 4-Input Positive-NAND Buffer; Note: Pins 1, 4, 5, 7, 11, 15, 16 and 17 are NC & not drawn.; Published: 8-Jun-2000; LatestRevisionDate: 17-Jul-2002; LatestRevisionNote: Re-released for DXP Platform.; DatasheetVersion: Jan-1989; PackageVersion: 1998; PackageReference: FK020D; Publisher: Altium Limited; PackageDescription: Leadless Chip Carrier; 20 Terminals; Body 8.9 x 8.9 mm; ComponentLink1Description: Manufacturer Link; ComponentLink1URL: http://www.ti.com/; ComponentLink2Description: Packaging Specification; ComponentLink2URL: http://www-s.ti.com/sc/psheets/mlcc006b/mlcc006b.pdf
footprint FK020D (Leadless Chip Carrier; 20 Terminals; Body 8.9 x 8.9 mm)
simulation model SN74F40 (SIMCODE)
signal-integrity model SN54F40FK
pins on every part: 10 GND (power) hidden to GND, 20 VCC (power) hidden to VCC
part A pins: 2 A (in), 3 B (in), 6 C (in), 8 D (in), 9 Y (out)
part B pins: 12 Y (out), 13 A (in), 14 B (in), 18 C (in), 19 D (in)

## SN54F40J
designator U?
Dual 4-Input Positive-NAND Buffer; Note: Pins 3 and 11 are NC & not drawn.; Published: 8-Jun-2000; LatestRevisionDate: 04-Mar-2005; LatestRevisionNote: Stylized 3D Model Added.; DatasheetVersion: Jan-1989; PackageVersion: Jun-1999; PackageReference: J014D; Publisher: Altium Limited; PackageDescription: DIP; 14 Leads; Row Spacing 7.62 mm; Pitch 2.54 mm; ComponentLink1Description: Manufacturer Link; ComponentLink1URL: http://www.ti.com/; ComponentLink2Description: Packaging Specification; ComponentLink2URL: http://focus.ti.com/lit/ml/mcer002d/mcer002d.pdf
footprint J014D (DIP; 14 Leads; Row Spacing 7.62 mm; Pitch 2.54 mm)
3D model J014 (DIP; 14 Leads; Row Spacing 7.62 mm; Pitch 2.54 mm)
simulation model SN74F40 (SIMCODE)
signal-integrity model SN54F40J
pins on every part: 7 GND (power) hidden to GND, 14 VCC (power) hidden to VCC
part A pins: 1 A (in), 2 B (in), 4 C (in), 5 D (in), 6 Y (out)
part B pins: 8 Y (out), 9 A (in), 10 B (in), 12 C (in), 13 D (in)

## SN54F51FK
designator U?
Dual 2-Wide 2-Input, 2-Wide 3-Input AND-OR-Invert Gate; Note: Pins 1, 5, 7, 11, 15 and 17 are not connected and not drawn; Published: 8-Jun-2000; LatestRevisionDate: 17-Jul-2002; LatestRevisionNote: Re-released for DXP Platform.; DatasheetVersion: Oct-1993; PackageVersion: 1998; PackageReference: FK020; Publisher: Altium Limited; PackageDescription: Leadless Chip Carrier; 20 Terminals; Body 8.9 x 8.9 mm; ComponentLink1Description: Manufacturer Link; ComponentLink1URL: http://www.ti.com/; ComponentLink2Description: Packaging Specification; ComponentLink2URL: http://www-s.ti.com/sc/psheets/mlcc006b/mlcc006b.pdf
footprint FK020 (Leadless Chip Carrier; 20 Terminals; Body 8.9 x 8.9 mm)
signal-integrity model SN54F51FK
pins on every part: 10 GND (power) hidden to GND, 20 VCC (power) hidden to VCC
part A pins: 2 A (in), 12 Y (out), 13 D (in), 14 E (in), 16 F (in), 18 B (in), 19 C (in)
part B pins: 3 A (in), 4 B (in), 6 C (in), 8 D (in), 9 Y (out)

## SN54F51J
designator U?
Dual 2-Wide 2-Input, 2-Wide 3-Input AND-OR-Invert Gate; Published: 8-Jun-2000; LatestRevisionDate: 04-Mar-2005; LatestRevisionNote: Stylized 3D Model Added.; DatasheetVersion: Oct-1993; PackageVersion: Jun-1999; PackageReference: J014; Publisher: Altium Limited; PackageDescription: DIP; 14 Leads; Row Spacing 7.62 mm; Pitch 2.54 mm; ComponentLink1Description: Manufacturer Link; ComponentLink1URL: http://www.ti.com/; ComponentLink2Description: Packaging Specification; ComponentLink2URL: http://focus.ti.com/lit/ml/mcer002d/mcer002d.pdf
footprint J014 (DIP; 14 Leads; Row Spacing 7.62 mm; Pitch 2.54 mm)
3D model J014 (DIP; 14 Leads; Row Spacing 7.62 mm; Pitch 2.54 mm)
signal-integrity model SN54F51J
pins on every part: 7 GND (power) hidden to GND, 14 VCC (power) hidden to VCC
part A pins: 1 A (in), 8 Y (out), 9 D (in), 10 E (in), 11 F (in), 12 B (in), 13 C (in)
part B pins: 2 A (in), 3 B (in), 4 C (in), 5 D (in), 6 Y (out)

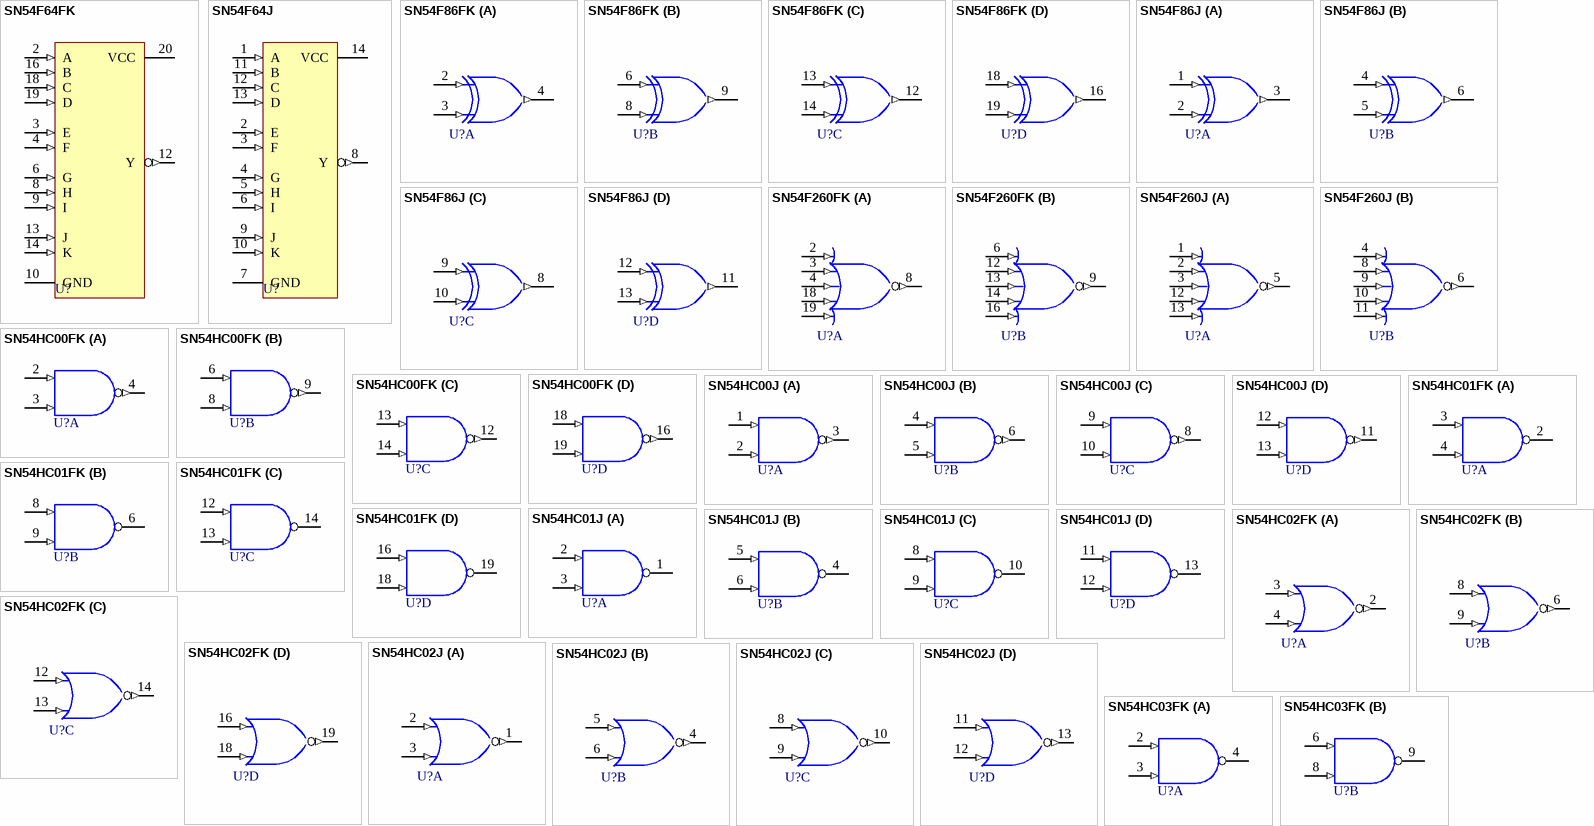
[diagram p29: symbols SN54F64FK to SN54HC03FK]

## SN54F64FK
designator U?
4-2-3-2 Input AND-OR-Invert Gate; Note: Pins 1, 5, 7, 11, 15 and 17 are not connected and not drawn; Published: 8-Jun-2000; LatestRevisionDate: 17-Jul-2002; LatestRevisionNote: Re-released for DXP Platform.; DatasheetVersion: Jan-1989; PackageVersion: 1998; PackageReference: FK020D; Publisher: Altium Limited; PackageDescription: Leadless Chip Carrier; 20 Terminals; Body 8.9 x 8.9 mm; ComponentLink1Description: Manufacturer Link; ComponentLink1URL: http://www.ti.com/; ComponentLink2Description: Packaging Specification; ComponentLink2URL: http://www-s.ti.com/sc/psheets/mlcc006b/mlcc006b.pdf
footprint FK020D (Leadless Chip Carrier; 20 Terminals; Body 8.9 x 8.9 mm)
signal-integrity model SN54F64FK
pins: 2 A (in), 3 E (in), 4 F (in), 6 G (in), 8 H (in), 9 I (in), 10 GND (power), 12 Y (out), 13 J (in), 14 K (in), 16 B (in), 18 C (in), 19 D (in), 20 VCC (power)

## SN54F64J
designator U?
4-2-3-2 Input AND-OR-Invert Gate; Published: 8-Jun-2000; LatestRevisionDate: 04-Mar-2005; LatestRevisionNote: Stylized 3D Model Added.; DatasheetVersion: Jan-1989; PackageVersion: Jun-1999; PackageReference: J014D; Publisher: Altium Limited; PackageDescription: DIP; 14 Leads; Row Spacing 7.62 mm; Pitch 2.54 mm; ComponentLink1Description: Manufacturer Link; ComponentLink1URL: http://www.ti.com/; ComponentLink2Description: Packaging Specification; ComponentLink2URL: http://focus.ti.com/lit/ml/mcer002d/mcer002d.pdf
footprint J014D (DIP; 14 Leads; Row Spacing 7.62 mm; Pitch 2.54 mm)
3D model J014 (DIP; 14 Leads; Row Spacing 7.62 mm; Pitch 2.54 mm)
signal-integrity model SN54F64J
pins: 1 A (in), 2 E (in), 3 F (in), 4 G (in), 5 H (in), 6 I (in), 7 GND (power), 8 Y (out), 9 J (in), 10 K (in), 11 B (in), 12 C (in), 13 D (in), 14 VCC (power)

## SN54F86FK
designator U?
Quadruple 2-Input Exclusive-OR Gate; Note: Pins 1, 5, 7, 11, 15 and 17 are NC & not drawn.; Published: 8-Jun-2000; LatestRevisionDate: 17-Jul-2002; LatestRevisionNote: Re-released for DXP Platform.; DatasheetVersion: Jan-1997; PackageVersion: 1998; PackageReference: FK020; Publisher: Altium Limited; PackageDescription: Leadless Chip Carrier; 20 Terminals; Body 8.9 x 8.9 mm; ComponentLink1Description: Manufacturer Link; ComponentLink1URL: http://www.ti.com/; ComponentLink2Description: Packaging Specification; ComponentLink2URL: http://www-s.ti.com/sc/psheets/mlcc006b/mlcc006b.pdf
footprint FK020 (Leadless Chip Carrier; 20 Terminals; Body 8.9 x 8.9 mm)
simulation model SN74F86 (SIMCODE)
signal-integrity model SN54F86FK
pins on every part: 10 GND (power) hidden to GND, 20 VCC (power) hidden to VCC
part A pins: 2 A (in), 3 B (in), 4 Y (out)
part B pins: 6 A (in), 8 B (in), 9 Y (out)
part C pins: 12 Y (out), 13 A (in), 14 B (in)
part D pins: 16 Y (out), 18 A (in), 19 B (in)

## SN54F86J
designator U?
Quadruple 2-Input Exclusive-OR Gate; Published: 8-Jun-2000; LatestRevisionDate: 04-Mar-2005; LatestRevisionNote: Stylized 3D Model Added.; DatasheetVersion: Jan-1997; PackageVersion: Jun-1999; PackageReference: J014; Publisher: Altium Limited; PackageDescription: DIP; 14 Leads; Row Spacing 7.62 mm; Pitch 2.54 mm; ComponentLink1Description: Manufacturer Link; ComponentLink1URL: http://www.ti.com/; ComponentLink2Description: Packaging Specification; ComponentLink2URL: http://focus.ti.com/lit/ml/mcer002d/mcer002d.pdf
footprint J014 (DIP; 14 Leads; Row Spacing 7.62 mm; Pitch 2.54 mm)
3D model J014 (DIP; 14 Leads; Row Spacing 7.62 mm; Pitch 2.54 mm)
simulation model SN74F86 (SIMCODE)
signal-integrity model SN54F86J
pins on every part: 7 GND (power) hidden to GND, 14 VCC (power) hidden to VCC
part A pins: 1 A (in), 2 B (in), 3 Y (out)
part B pins: 4 A (in), 5 B (in), 6 Y (out)
part C pins: 8 Y (out), 9 A (in), 10 B (in)
part D pins: 11 Y (out), 12 A (in), 13 B (in)

## SN54F260FK
designator U?
Dual 5-Input Positive-NOR Gate; Note: Pins 1, 5, 7, 11, 15 and 17 are not connected and not drawn; Published: 8-Jun-2000; LatestRevisionDate: 17-Jul-2002; LatestRevisionNote: Re-released for DXP Platform.; DatasheetVersion: Jan-1989; PackageVersion: 1998; PackageReference: FK020D; Publisher: Altium Limited; PackageDescription: Leadless Chip Carrier; 20 Terminals; Body 8.9 x 8.9 mm; ComponentLink1Description: Manufacturer Link; ComponentLink1URL: http://www.ti.com/; ComponentLink2Description: Packaging Specification; ComponentLink2URL: http://www-s.ti.com/sc/psheets/mlcc006b/mlcc006b.pdf
footprint FK020D (Leadless Chip Carrier; 20 Terminals; Body 8.9 x 8.9 mm)
signal-integrity model SN54F260FK
pins on every part: 10 GND (power) hidden to GND, 20 VCC (power) hidden to VCC
part A pins: 2 A (in), 3 B (in), 4 C (in), 8 Y (out), 18 D (in), 19 E (in)
part B pins: 6 A (in), 9 Y (out), 12 B (in), 13 C (in), 14 D (in), 16 E (in)

## SN54F260J
designator U?
Dual 5-Input Positive-NOR Gate; Published: 8-Jun-2000; LatestRevisionDate: 04-Mar-2005; LatestRevisionNote: Stylized 3D Model Added.; DatasheetVersion: Jan-1989; PackageVersion: Jun-1999; PackageReference: J014D; Publisher: Altium Limited; PackageDescription: DIP; 14 Leads; Row Spacing 7.62 mm; Pitch 2.54 mm; ComponentLink1Description: Manufacturer Link; ComponentLink1URL: http://www.ti.com/; ComponentLink2Description: Packaging Specification; ComponentLink2URL: http://focus.ti.com/lit/ml/mcer002d/mcer002d.pdf
footprint J014D (DIP; 14 Leads; Row Spacing 7.62 mm; Pitch 2.54 mm)
3D model J014 (DIP; 14 Leads; Row Spacing 7.62 mm; Pitch 2.54 mm)
signal-integrity model SN54F260J
pins on every part: 7 GND (power) hidden to GND, 14 VCC (power) hidden to VCC
part A pins: 1 A (in), 2 B (in), 3 C (in), 5 Y (out), 12 D (in), 13 E (in)
part B pins: 4 A (in), 6 Y (out), 8 B (in), 9 C (in), 10 D (in), 11 E (in)

## SN54HC00FK
designator U?
Quadruple 2-Input Positive-NAND Gate; Note: Pins 1, 5, 7, 11, 15 and 17 are not connected and not drawn; Published: 8-Jun-2000; LatestRevisionDate: 17-Jul-2002; LatestRevisionNote: Re-released for DXP Platform.; DatasheetVersion: May-1997; PackageVersion: 1998; PackageReference: FK020; Publisher: Altium Limited; PackageDescription: Leadless Chip Carrier; 20 Terminals; Body 8.9 x 8.9 mm; ComponentLink1Description: Manufacturer Link; ComponentLink1URL: http://www.ti.com/; ComponentLink2Description: Datasheet; ComponentLink2URL: http://www-s.ti.com/sc/ds/sn54hc00.pdf; ComponentLink3Description: Packaging Specification; ComponentLink3URL: http://www-s.ti.com/sc/psheets/mlcc006b/mlcc006b.pdf
footprint FK020 (Leadless Chip Carrier; 20 Terminals; Body 8.9 x 8.9 mm)
signal-integrity model SN54HC00FK
pins on every part: 10 GND (power) hidden to GND, 20 VCC (power) hidden to VCC
part A pins: 2 A (in), 3 B (in), 4 Y (out)
part B pins: 6 A (in), 8 B (in), 9 Y (out)
part C pins: 12 Y (out), 13 A (in), 14 B (in)
part D pins: 16 Y (out), 18 A (in), 19 B (in)

## SN54HC00J
designator U?
Quadruple 2-Input Positive-NAND Gate; Published: 8-Jun-2000; LatestRevisionDate: 04-Mar-2005; LatestRevisionNote: Stylized 3D Model Added.; DatasheetVersion: May-1997; PackageVersion: Jun-1999; PackageReference: J014; Publisher: Altium Limited; PackageDescription: DIP; 14 Leads; Row Spacing 7.62 mm; Pitch 2.54 mm; ComponentLink1Description: Manufacturer Link; ComponentLink1URL: http://www.ti.com/; ComponentLink2Description: Datasheet; ComponentLink2URL: http://www-s.ti.com/sc/ds/sn54hc00.pdf; ComponentLink3Description: Packaging Specification; ComponentLink3URL: http://focus.ti.com/lit/ml/mcer002d/mcer002d.pdf
footprint J014 (DIP; 14 Leads; Row Spacing 7.62 mm; Pitch 2.54 mm)
3D model J014 (DIP; 14 Leads; Row Spacing 7.62 mm; Pitch 2.54 mm)
signal-integrity model SN54HC00J
pins on every part: 7 GND (power) hidden to GND, 14 VCC (power) hidden to VCC
part A pins: 1 A (in), 2 B (in), 3 Y (out)
part B pins: 4 A (in), 5 B (in), 6 Y (out)
part C pins: 8 Y (out), 9 A (in), 10 B (in)
part D pins: 11 Y (out), 12 A (in), 13 B (in)